# Altium schematic symbol library PJ-002BH-SMT-TR.SchLib: 1 symbol
Pins are listed as number, name and electrical type; pins without a type are passive.

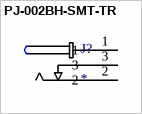
[diagram p0: symbol PJ-002BH-SMT-TR]

## PJ-002BH-SMT-TR
designator J?
CONN PWR JACK 2.5X5.5MM SOLDER / Manufacturer PN: PJ-002BH-SMT-TR
footprint PJ-002BH-SMT-TR
pins: 1, 1, 2, 3